# EAGLE library part HR911105A (library prj_snowmaker)
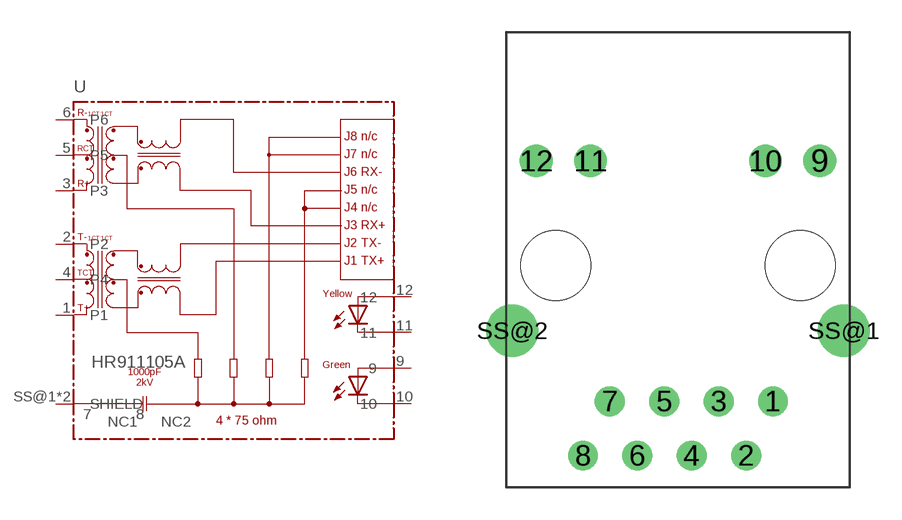
[diagram p6: symbol with the pads of HR911105A; footprint HR911105A]

Designator prefix U

## HR911105A  [HR911105A]
1  P1  pas
2  P2  pas
3  P3  pas
4  P4  pas
5  P5  pas
6  P6  pas
7  NC1  pas
8  NC2  pas
9  9  pas
10  10  pas
11  11  pas
12  12  pas
SS@1  SHIELD  pas
SS@2  SHIELD  pas

## Footprint HR911105A (pad centres in mm)
drill 0.89: 1 4.44,-6.35; 2 3.18,-8.89; 3 1.9,-6.35; 4 0.64,-8.89; 5 -0.64,-6.35; 6 -1.9,-8.89; 7 -3.18,-6.35; 8 -4.44,-8.89
drill 1.02: 9 6.625,4.9; 10 4.085,4.9; 11 -4.085,4.9; 12 -6.625,4.9
drill 1.63: SS@1 7.745,-3.05; SS@2 -7.745,-3.05
hole 3.25 at 5.715,0
hole 3.25 at -5.715,0